# Altium schematic symbol library CONN_ETHERNET.SchLib: 2 symbols
Pins are listed as number, name and electrical type; pins without a type are passive.

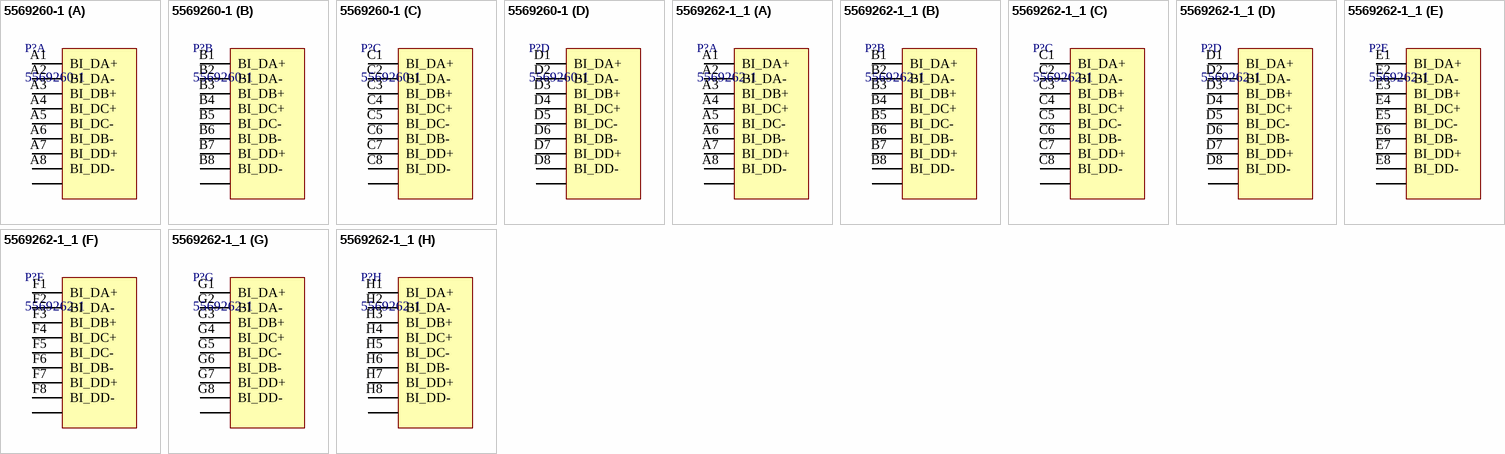
[diagram p0: symbols 5569260-1 to 5569262-1_1]

## 5569260-1
designator P?
Manufacturer: TE; Name: 5569260-1; BOMString: 5569260-1
footprint 5569260-1
part A pins: 0, A1 BI_DA+, A2 BI_DA-, A3 BI_DB+, A4 BI_DC+, A5 BI_DC-, A6 BI_DB-, A7 BI_DD+, A8 BI_DD-
part B pins: 0, B1 BI_DA+, B2 BI_DA-, B3 BI_DB+, B4 BI_DC+, B5 BI_DC-, B6 BI_DB-, B7 BI_DD+, B8 BI_DD-
part C pins: 0, C1 BI_DA+, C2 BI_DA-, C3 BI_DB+, C4 BI_DC+, C5 BI_DC-, C6 BI_DB-, C7 BI_DD+, C8 BI_DD-
part D pins: 0, D1 BI_DA+, D2 BI_DA-, D3 BI_DB+, D4 BI_DC+, D5 BI_DC-, D6 BI_DB-, D7 BI_DD+, D8 BI_DD-

## 5569262-1_1
designator P?, comment 5569262-1
Manufacturer: TE; Name: 5569262-1; BOMString: 5569262-1
footprint 5569262-1
part A pins: 0, A1 BI_DA+, A2 BI_DA-, A3 BI_DB+, A4 BI_DC+, A5 BI_DC-, A6 BI_DB-, A7 BI_DD+, A8 BI_DD-
part B pins: 0, B1 BI_DA+, B2 BI_DA-, B3 BI_DB+, B4 BI_DC+, B5 BI_DC-, B6 BI_DB-, B7 BI_DD+, B8 BI_DD-
part C pins: 0, C1 BI_DA+, C2 BI_DA-, C3 BI_DB+, C4 BI_DC+, C5 BI_DC-, C6 BI_DB-, C7 BI_DD+, C8 BI_DD-
part D pins: 0, D1 BI_DA+, D2 BI_DA-, D3 BI_DB+, D4 BI_DC+, D5 BI_DC-, D6 BI_DB-, D7 BI_DD+, D8 BI_DD-
part E pins: 0, E1 BI_DA+, E2 BI_DA-, E3 BI_DB+, E4 BI_DC+, E5 BI_DC-, E6 BI_DB-, E7 BI_DD+, E8 BI_DD-
part F pins: 0, F1 BI_DA+, F2 BI_DA-, F3 BI_DB+, F4 BI_DC+, F5 BI_DC-, F6 BI_DB-, F7 BI_DD+, F8 BI_DD-
part G pins: 0, G1 BI_DA+, G2 BI_DA-, G3 BI_DB+, G4 BI_DC+, G5 BI_DC-, G6 BI_DB-, G7 BI_DD+, G8 BI_DD-
part H pins: 0, H1 BI_DA+, H2 BI_DA-, H3 BI_DB+, H4 BI_DC+, H5 BI_DC-, H6 BI_DB-, H7 BI_DD+, H8 BI_DD-